# EAGLE library part EM78P153S (library custom)
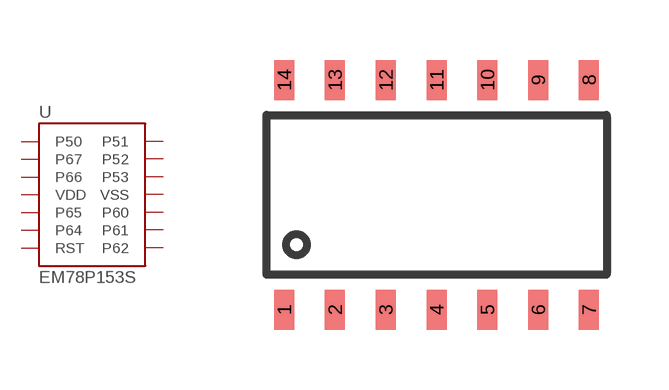
[diagram p60: symbol with the pads of 14-SOIC; footprint 14-SOIC]

Designator prefix U

## EM78P153S  [14-SOIC]
1  P50
2  P67
3  P66
4  VDD
5  P65
6  P64
7  RST
8  P62
9  P61
10  P60
11  VSS
12  P53
13  P52
14  P51

## Footprint 14-SOIC (pad centres in mm)
smd 0.5 x 1: 1 -3.81,-2.875; 2 -2.54,-2.875; 3 -1.27,-2.875; 4 0,-2.875; 5 1.27,-2.875; 6 2.54,-2.875; 7 3.81,-2.875; 8 3.81,2.875; 9 2.54,2.875; 10 1.27,2.875; 11 0,2.875; 12 -1.27,2.875; 13 -2.54,2.875; 14 -3.81,2.875